# EAGLE library part PINHD-2X3 (library Arduino_R3_Half_Template)
PIN HEADER
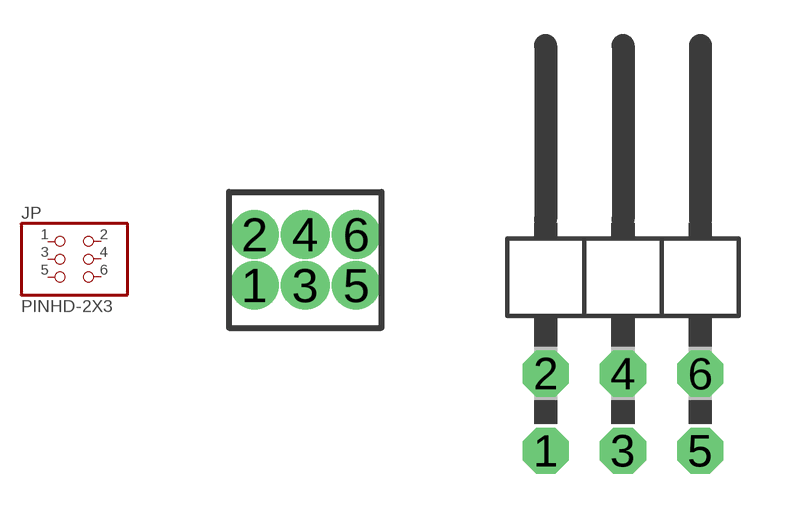
[diagram p3: symbol with the pads of 2X03; footprints 2X03, 2X03/90]

Designator prefix JP

## PINHD-2X3  [2X03]
1  1  pas
2  2  pas
3  3  pas
4  4  pas
5  5  pas
6  6  pas

## PINHD-2X3/90  [2X03/90]
Pads as for 2X03

## Footprint 2X03 (pad centres in mm)
Sullins GRPB032VWVN-RC INSULATOR MATERIAL G = Nylon CONTACT MATERIAL R = Brass CONTACT FINISH - RoHS Compliant P = Gold Flash Overall CONTACT CENTERS B = .050” [1.27 mm] NUMBER OF POSITIONS 03 NUMBER OF ROWS 2 = Dual Row TERMINATION TYPE VWV = Straight MOUNTING STYLE N = No Mounting RoHS COMPLIANT
drill 0.711 pad 1.016: 1 -1.27,-0.635; 2 -1.27,0.635; 3 0,-0.635; 4 0,0.635; 5 1.27,-0.635; 6 1.27,0.635

## Footprint 2X03/90 (pad centres in mm)
PIN HEADER
drill 1.016 octagon: 1 -2.54,-6.35; 2 -2.54,-3.81; 3 0,-6.35; 4 0,-3.81; 5 2.54,-6.35; 6 2.54,-3.81